# Altium schematic symbol library 20 Position Header.SchLib: 2 symbols
Pins are listed as number, name and electrical type; pins without a type are passive.

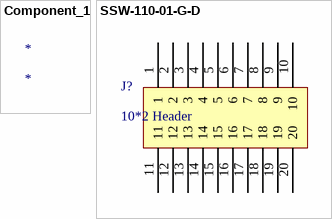
[diagram p0: symbols Component_1 to SSW-110-01-G-D]

## Component_1
designator *

## SSW-110-01-G-D
designator J?, comment 10*2 Header
CONN RCPT 20POS 0.1 GOLD PCB; Manufacturer: Samtec; Manufacturer Part Number: SSW-110-01-G-D; Number of Contacts: 20; Gender: Receptacle; Mating Cycles: 100; Max Current Rating: 6.9A; Contact Resistance: 10mR; Max Voltage Rating (AC): 550V; Pitch: 2.54mm; Row Spacing: 0.1inch; Supplier 1: Digi-Key; Stock 1: 1406; Pricing 1: 1 = 2.68000, 10 = 2.57500, 25 = 2.36000, 50 = 2.25280, 100 = 2.14560, 250 = 1.87740, 500 = 1.82376 (USD); RoHS: Yes; Mount: Through Hole; Contact Plating: Gold; Color: Black; Contact Material: Bronze; Housing Color: Black; Housing Material: Polymer; Min Operating Temperature: -55°C; Max Operating Temperature: 125°C; Number of Rows: 2; Termination: Solder; Packaging: Bulk; Connector Type: Receptacle; Number of Positions: 20; Orientation: Straight; Current Rating: 6.9A; Voltage Rating: 550V; Length: 25.91mm; Depth: 4.95mm; Lead Pitch: 2.54mm; Radiation Hardening: No; REACH SVHC: No SVHC; Lead Free: Lead Free; ComponentLink1URL: https://datasheet.ciiva.com/25617/0900766b8115c03d-25617948.pdf?src-supplier=RSComponents; ComponentLink1Description: https://datasheet.ciiva.com/25617/0900766b8115c03d-25617948.pdf?src-supplier=RSComponents; ComponentLink2URL: https://datasheet.ciiva.com/22677/82032-22677781.pdf?src-supplier=Element14; ComponentLink2Description: https://datasheet.ciiva.com/22677/82032-22677781.pdf?src-supplier=Element14; ComponentLink3URL: https://datasheet.ciiva.com/749/ssw-1xx-xx-xxx-x-xx-xxx-xx-mkt-749821.pdf?src-supplier=Digi-Key; ComponentLink3Description: https://datasheet.ciiva.com/749/ssw-1xx-xx-xxx-x-xx-xxx-xx-mkt-749821.pdf?src-supplier=Digi-Key; Supplier Part Number 1: SAM1208-10-ND; Category: Board to Board & Mezzanine Connectors
pins: 1, 2, 3, 4, 5, 6, 7, 8, 9, 10, 11, 12, 13, 14, 15, 16, 17, 18, 19, 20